# Altium schematic symbol library X_F_Z (2).SchLib: 37 symbols
Pins are listed as number, name and electrical type; pins without a type are passive.

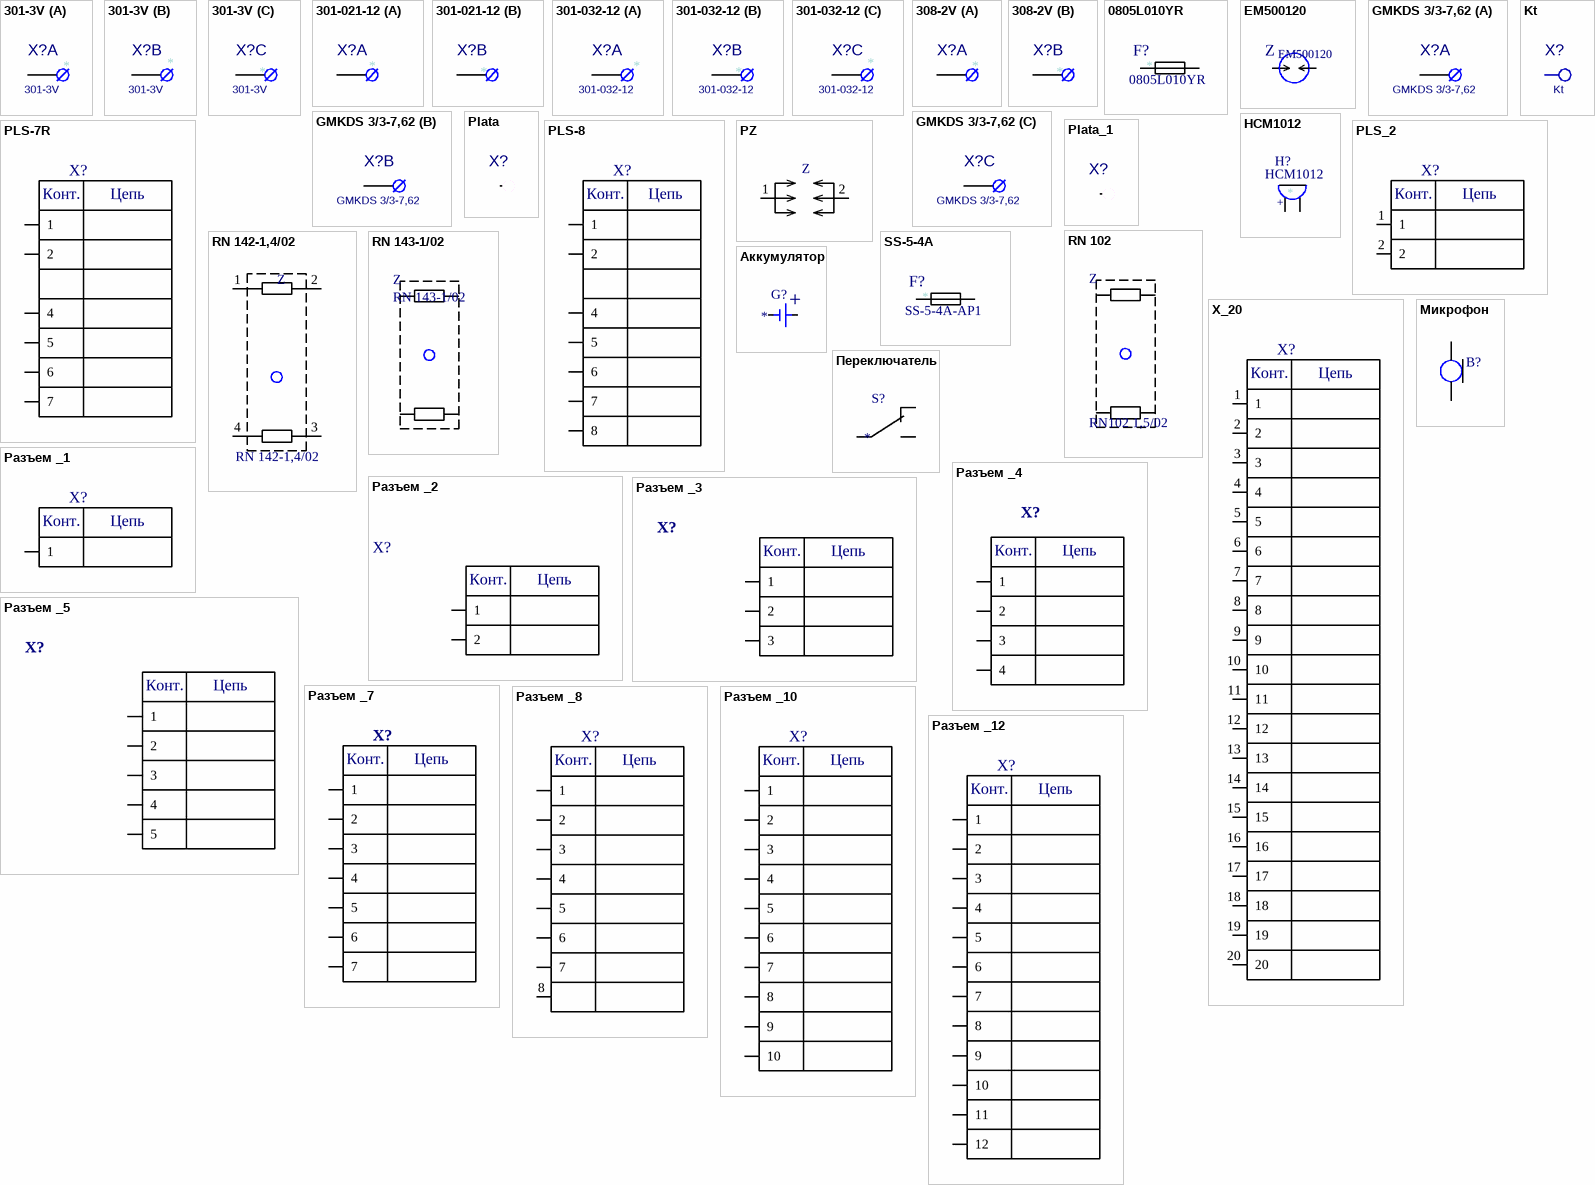
[diagram p0: symbols 301-3V to Разъем _12]

## 301-3V
designator X?
301-2V; TitAD: Клеммник; V: 301-3V
footprint 301-3V
footprint 301-3V_1
part A pins: 1
part B pins: 2
part C pins: 3

## 301-021-12
designator X?  (value not drawn)
301-2V; TitAD: Клеммник
footprint 301-2V
footprint 301-2V_1
part A pins: 1
part B pins: 2

## 301-032-12
designator X?
TitAD: Клеммник; V: 301-3V
footprint 301-03-2-1-2
footprint 301-03-2-1-2_1
part A pins: 1
part B pins: 2
part C pins: 3

## 308-2V
designator X?  (value not drawn)
TitAD: Клеммник; V: 308-2V
footprint 308-2V-1
footprint 308-2V
part A pins: 1
part B pins: 2

## 0805L010YR
designator F?
TitAD: Предохранитель
footprint F0805
pins: 1, 2

## EM500120
designator Z
TitAD: Разрядник
footprint EM500120
footprint EM500120_1
pins: 1, 2

## GMKDS 3/3-7,62
designator X?
301-2V; TitAD: Клеммник
footprint GMKDS 3/3-7.62
footprint GMKDS 3/3-7.62 - 1
part A pins: 1
part B pins: 2
part C pins: 3

## HCM1012
designator H?
TitAD: Зуммер
footprint HCM1012
pins: 1 +, 2 -

## Kt
designator X?
TitAD: Клеммник; V: 301-2V
footprint Kt
pins: 1
3 alternate drawings of the same symbol

## Plata
designator X?  (value not drawn)
TitAD: Клеммник
footprint Plata_1
pins: 1

## Plata_1
designator X?, comment Plata  (value not drawn)
TitAD: Клеммник
footprint Plata_1
footprint Plata
pins: 1

## PLS-7R
designator X?
TitAD: Разъем
footprint PLS_7R
pins: 1, 2, 3 hidden, 4, 5, 6, 7
1 alternate drawing of the same symbol
text: Конт.; Цепь

## PLS-8
designator X?
TitAD: Разъем
footprint PLS_8
footprint PBS_8
pins: 1, 2, 3 hidden, 4, 5, 6, 7, 8
text: Конт.; Цепь

## PLS_2
designator X?
TitAD: Разъем
footprint PLS_2
pins: 1, 2
1 alternate drawing of the same symbol
text: Конт.; Цепь

## PZ
designator Z  (value not drawn)
TitAD: Печатный разрядник
footprint PZ
pins: 1, 2

## RN 102
designator Z  V: RN102 1,5/02  (hidden comment: RN 102)
TitAD: Фильтр входной
footprint RN 102
pins: 1, 2, 3, 4

## RN 142-1,4/02
designator Z
TitAD: Фильтр входной
footprint RN 143
pins: 1, 2, 3, 4

## RN 143-1/02
designator Z
TitAD: Фильтр входной
footprint RN 143
pins: 1, 2, 3, 4

## SS-5-4A
designator F?, comment SS-5-4A-AP1
TitAD: Предохранитель; SType: @-AP1; Supplier 1: Farnell; Supplier Part Number 1: 2164518
footprint SS-5-4A-AP
footprint SS-5-4A-AP1
pins: 1, 2

## X_20
designator X?
TitAD: Разъем
footprint BLD_20
pins: 1, 2, 3, 4, 5, 6, 7, 8, 9, 10, 11, 12, 13, 14, 15, 16, 17, 18, 19, 20
1 alternate drawing of the same symbol
text: Конт.; Цепь

## Аккумулятор
designator G?
footprint Аккумулятор
pins: 1, 2 hidden, 3
text: +

## Микрофон
designator B?  (value not drawn)
TitAD: Микрофон
footprint Микрофон
pins: 1, 2

## Переключатель
designator S?
footprint Переключатель
pins: 1, 2, 3
1 alternate drawing of the same symbol

## Разъем _1
designator X?
TitAD: Разъем
footprint X1
pins: 1
1 alternate drawing of the same symbol
text: Конт.; Цепь

## Разъем _2
designator X?
TitAD: Разъем; SType: PLS-2
footprint PLS-2R2_2
footprint PLS-2R_2
footprint X2
footprint PLS-2R
footprint PLS-2
footprint PBS-2
pins: 1, 2
3 alternate drawings of the same symbol
text: Конт.; Цепь

## Разъем _3
designator X?
TitAD: Разъем; SType: PLS-3
footprint PLS-3R_2
footprint PLS-3R2_2
footprint PLS-3
footprint PBS-3
footprint PLS-3R
footprint X3
footprint X3_1
pins: 1, 2, 3
3 alternate drawings of the same symbol
text: Конт.; Цепь

## Разъем _4
designator X?
TitAD: Разъем; SType: PLS-5
footprint X4
footprint PLS-4R
footprint PLS-4
footprint PBS-4
pins: 1, 2, 3, 4
3 alternate drawings of the same symbol
text: Конт.; Цепь

## Разъем _5
designator X?
TitAD: Разъем; SType: PLS-5
footprint PLS-5R
footprint X5
footprint PLS-5
footprint PBS-5
pins: 1, 2, 3, 4, 5
3 alternate drawings of the same symbol
text: Конт.; Цепь

## Разъем _7
designator X?
TitAD: Разъем; SType: PLS-7
footprint X7
footprint PLS-7
footprint PLS-7R
footprint PBS-7
pins: 1, 2, 3, 4, 5, 6, 7
4 alternate drawings of the same symbol
text: Конт.; Цепь

## Разъем _8
designator X?
TitAD: Разъем; SType: PLS-8
footprint X8
footprint PLS-8
footprint PBS-8
pins: 1, 2, 3, 4, 5, 6, 7, 8
1 alternate drawing of the same symbol
text: Конт.; Цепь

## Разъем _10
designator X?
TitAD: Разъем; SType: PLS-10
footprint PBS-10
pins: 1, 2, 3, 4, 5, 6, 7, 8, 9, 10
1 alternate drawing of the same symbol
text: Конт.; Цепь

## Разъем _12
designator X?
TitAD: Разъем; SType: PLS-12
footprint X12
footprint PLS-12R2_Z
footprint PLS-12R
footprint PBS-12
pins: 1, 2, 3, 4, 5, 6, 7, 8, 9, 10, 11, 12
1 alternate drawing of the same symbol
text: Конт.; Цепь

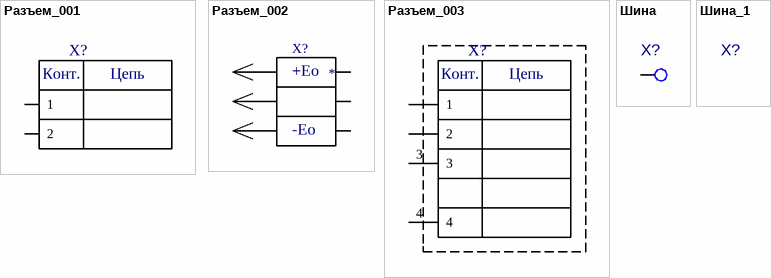
[diagram p1: symbols Разъем_001 to Шина_1]

## Разъем_001
designator X?
TitAD: Разъем
footprint Разъем_001
pins: 1, 2
text: Конт.; Цепь

## Разъем_002
designator X?
footprint Разъем_002
pins: 1, 2, 3, 4, 5, 6
text: +Eo; -Eo

## Разъем_003
designator X?
TitAD: Разъем
footprint Разъем_003
pins: 1, 2, 3, 4, 5 hidden, 6 G hidden, 7 G hidden, 8 G hidden, 9 G
text: Конт.; Цепь

## Шина
designator X?  (value not drawn)
TitAD: Клеммник; V: 301-2V
footprint Шина
pins: 1, 2 hidden

## Шина_1
designator X?  (value not drawn)
TitAD: Клеммник; V: 301-2V
footprint Шина_1
pins: 1